# EAGLE library part PGA113 (library mastrogippo)
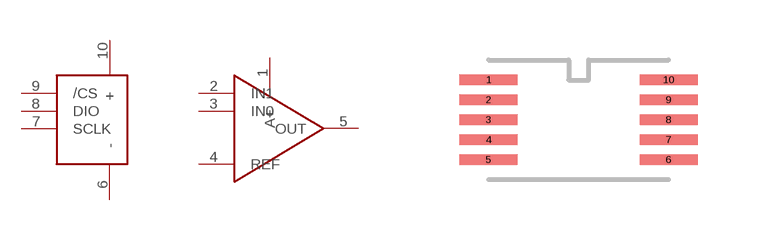
[diagram p1: symbol with the pads of VSSOP; footprint VSSOP]

Designator prefix -; gates G$1=PGA113_CONT G$2=PGA113_AMP

## PGA113  [VSSOP]
1  G$2:A+
2  G$2:IN1
3  G$2:IN0
4  G$2:REF
5  G$2:OUT
6  G$1:-
7  G$1:SCLK
8  G$1:DIO
9  G$1:/CS
10  G$1:+

## Footprint VSSOP (pad centres in mm)
smd 1.45 x 0.26: 1 -2,1; 2 -2,0.5; 3 -2,0; 4 -2,-0.5; 5 -2,-1; 6 2.5,-1; 7 2.5,-0.5; 8 2.5,0; 9 2.5,0.5; 10 2.5,1